# Altium footprint library SR PCB Library V01.PcbLib: 402 footprints (part 12 of 26)
Each footprint in its own frame and in the unit in brackets; x right, y up, seen from the top. Pads: shape width x height; smd on the part's side, far side on the other; paste and mask are expansions set on the pad; w line width, h text height; cw(c..) or ccw(c..) is an arc to the next point about the centre after c.
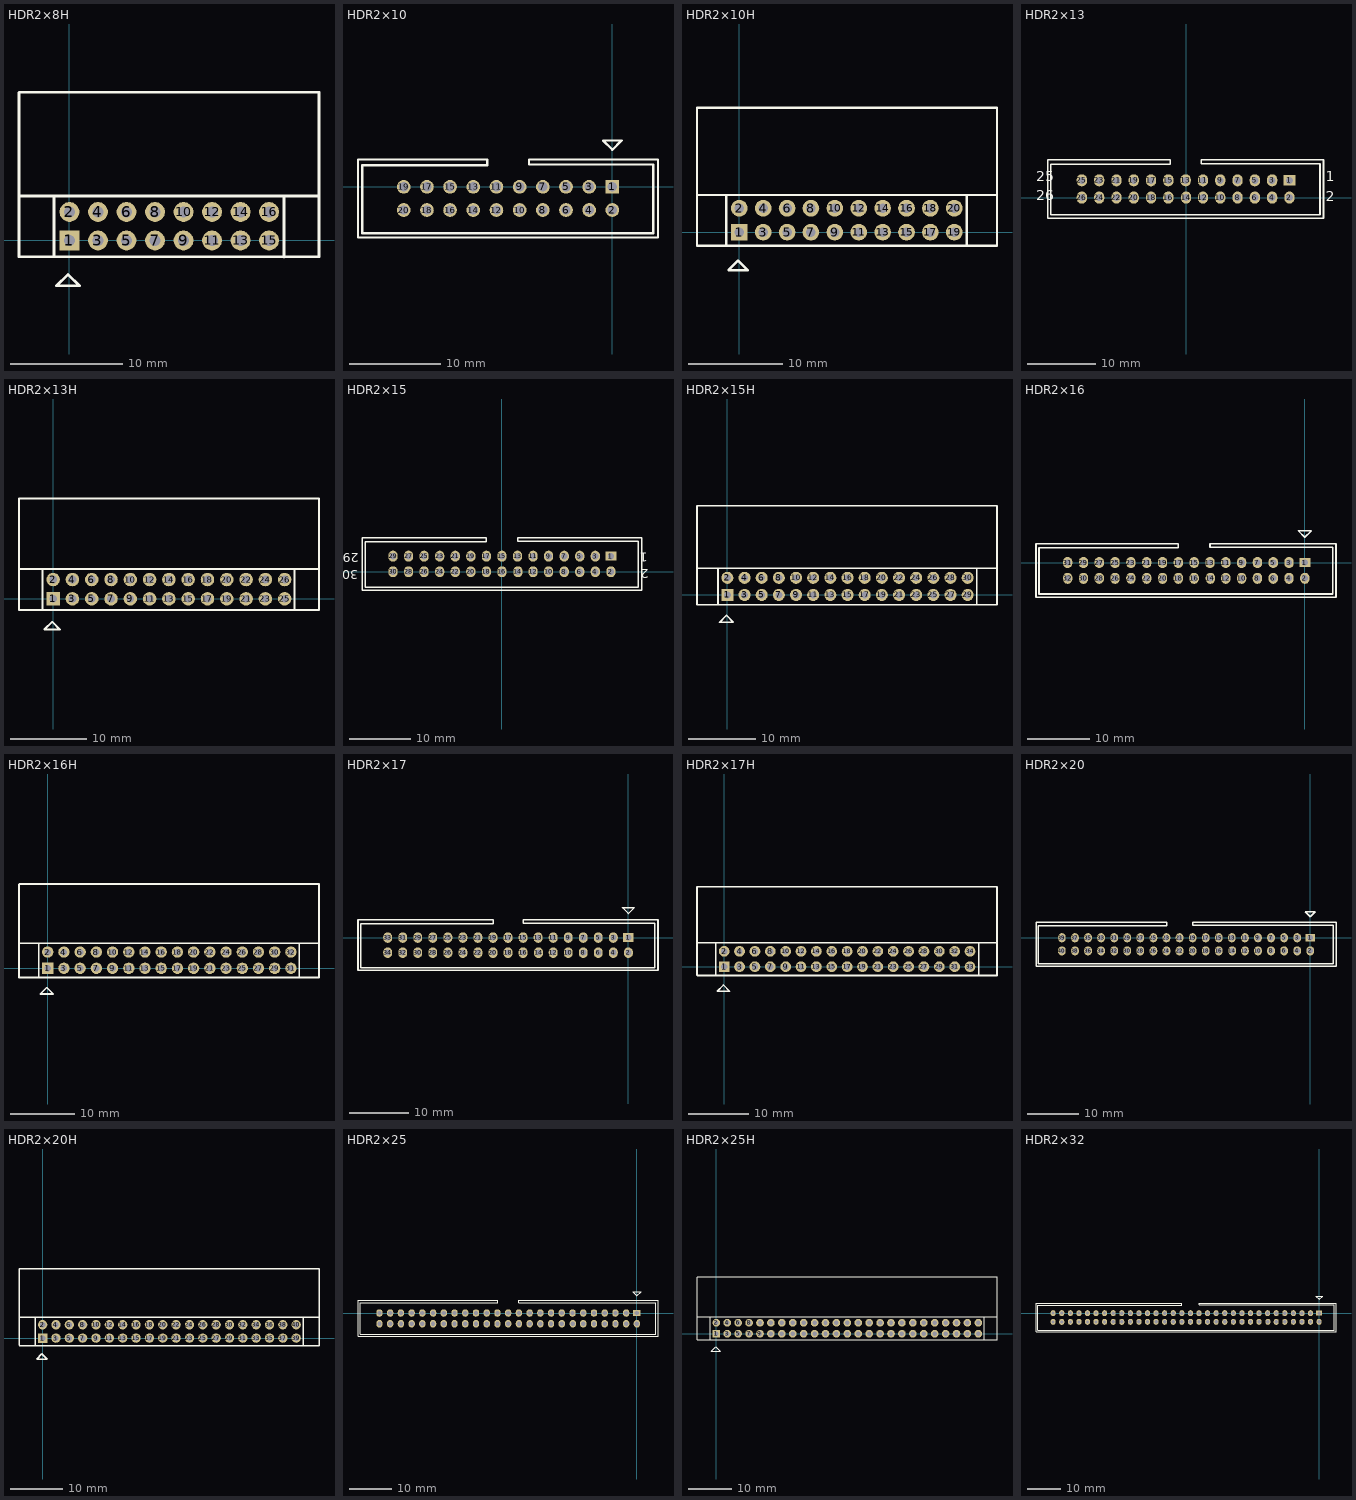
[diagram p11: the footprints below, top view; thin cyan lines are the x and y axes]

## HDR2×8H [mil]
pads (16):
  rect 70x70 hole 40: 1(0,0)
  round 70 hole 40: 2(0,100) 3(100,0) 4(100,100) 5(200,0) 6(200,100) 7(300,0) 8(300,100) 9(400,0) 10(400,100) 11(500,0) 12(500,100) 13(600,0) 14(600,100) 15(700,0) 16(700,100)
Top Overlay:
  lines w10: -177,-55 -177,519 ; -176.82,-57 875,-57 875,520 -176,520 ; -176.82,155.5 875,155.5 ; -54.15,-54 -54.15,155 ; 751.97,-57.46 751.97,153.54 ; -45.3,-159 14.7,-159 34.7,-159 -5.3,-119 -45.3,-159

## HDR2×10 [mm]
pads (20):
  rect 1.5x1.5 hole 1.016: 1(0,0)
  round 1.5 hole 1.016: 2(0,-2.54) 3(-2.54,0) 4(-2.54,-2.54) 5(-5.08,0) 6(-5.08,-2.54) 7(-7.62,0) 8(-7.62,-2.54) 9(-10.16,0) 10(-10.16,-2.54) 11(-12.7,0) 12(-12.7,-2.54) 13(-15.24,0) 14(-15.24,-2.54) 15(-17.78,0) 16(-17.78,-2.54) 17(-20.32,0) 18(-20.32,-2.54) 19(-22.86,0) 20(-22.86,-2.54)
Top Overlay:
  lines w0.254: 5,-5.55 -27.87,-5.55 -27.87,3 -13.706,3 -13.706,2.377 -27.417,2.377 -27.417,-5.067 4.488,-5.067 4.488,2.443 -9.126,2.443 -9.126,3 5,3 ; 5,-5.55 5,3 ; 5,-5.55 5,3 ; -1.016,5.08 0,4.064 1.016,5.08 -0.508,5.08 -1.016,5.08

## HDR2×10H [mil]
pads (20):
  rect 70x70 hole 40: 1(0,0)
  round 70 hole 40: 2(0,100) 3(100,0) 4(100,100) 5(200,0) 6(200,100) 7(300,0) 8(300,100) 9(400,0) 10(400,100) 11(500,0) 12(500,100) 13(600,0) 14(600,100) 15(700,0) 16(700,100) 17(800,0) 18(800,100) 19(900,0) 20(900,100)
Top Overlay:
  lines w10: -177,-55 -177,519 ; -176.82,-57 1078.74,-57 1078.74,520 -176,520 ; -176.82,155.5 1074.8,155.5 ; -54.15,-54 -54.15,155 ; 952.76,-51.18 952.76,153.54 ; -45.3,-159 14.7,-159 34.7,-159 -5.3,-119 -45.3,-159

## HDR2×13 [mil]
pads (26):
  rect 70x59.06 hole 40: 1(597.24,100)
  oval 59.06x70 hole 40: 2(597.24,0) 3(497.24,100) 4(497.24,0) 5(397.24,100) 6(397.24,0) 7(297.24,100) 8(297.24,0) 9(197.24,100) 10(197.24,0) 11(97.24,100) 12(97.24,0) 13(-2.76,100) 14(0,0) 15(-102.76,100) 16(-102.76,0) 17(-202.76,100) 18(-202.76,0) 19(-302.76,100) 20(-302.76,0) 21(-402.76,100) 22(-402.76,0) 23(-502.76,100) 24(-502.76,0) 25(-602.76,100) 26(-602.76,0)
Top Overlay:
  lines w10: 794.09,-118.5 -800,-118.5 -800,218.11 -92.36,218.11 -92.36,193.6 -782.16,193.6 -782.16,-99.5 773.94,-99.5 773.94,196.2 87.94,196.2 87.94,218.11 794.09,218.11 ; 794.09,-118.5 794.09,218.11 ; 794.09,-118.5 794.09,218.11
  text "1" at 807.24,95 h59.06
  text "2" at 807.24,-20 h59.06
  text "25" at -867.76,95 h59.06
  text "26" at -867.76,-15 h59.06

## HDR2×13H [mil]
pads (26):
  rect 70x70 hole 40: 1(0,0)
  round 70 hole 40: 2(0,100) 3(100,0) 4(100,100) 5(200,0) 6(200,100) 7(300,0) 8(300,100) 9(400,0) 10(400,100) 11(500,0) 12(500,100) 13(600,0) 14(600,100) 15(700,0) 16(700,100) 17(800,0) 18(800,100) 19(900,0) 20(900,100) 21(1000,0) 22(1000,100) 23(1100,0) 24(1100,100) 25(1200,0) 26(1200,100)
Top Overlay:
  lines w10: -177,-55 -177,519 ; -176.82,-57 1377.95,-57 1377.95,520 -176,520 ; -176.82,155.5 1377.95,155.5 ; -54.15,-54 -54.15,155 ; 1251.97,-55.48 1251.97,153.54 ; -45.3,-159 -5.3,-119 34.7,-159 14.7,-159 -45.3,-159

## HDR2×15 [mil]
pads (30):
  rect 70x59.06 hole 40: 1(700,100)
  oval 59.06x70 hole 40: 2(700,0) 3(600,100) 4(600,0) 5(500,100) 6(500,0) 7(400,100) 8(400,0) 9(300,100) 10(300,0) 11(200,100) 12(200,0) 13(100,100) 14(102.76,0) 15(0,100) 16(0,0) 17(-100,100) 18(-100,0) 19(-200,100) 20(-200,0) 21(-300,100) 22(-300,0) 23(-400,100) 24(-400,0) 25(-500,100) 26(-500,0) 27(-600,100) 28(-600,0) 29(-700,100) 30(-700,0)
Top Overlay:
  lines w10: -897.24,-118.5 -897.24,218.11 ; -897,-119 -879,-119 896.85,-119 896.85,218.11 ; -897,218.11 -389.6,218.11 ; -879.4,-99 -879.4,193.6 ; -879,-99 876.7,-99 876.7,196.2 102,196.2 102,218.11 896.85,218.11 ; -879,193.6 -389.6,193.6 ; -697.24,218.11 -102,218.11 -102,193.6 -679.4,193.6 ; 896.85,-118.5 896.85,218.11
  text "2" at 943.62,16.69 h59.06
  text "1" at 937.72,121.42 h59.06
  text "29" at -920.16,117.87 h59.06
  text "30" at -924.88,8.43 h59.06

## HDR2×15H [mil]
pads (30):
  rect 70x70 hole 40: 1(0,0)
  round 70 hole 40: 2(0,100) 3(100,0) 4(100,100) 5(200,0) 6(200,100) 7(300,0) 8(300,100) 9(400,0) 10(400,100) 11(500,0) 12(500,100) 13(600,0) 14(600,100) 15(700,0) 16(700,100) 17(800,0) 18(800,100) 19(900,0) 20(900,100) 21(1000,0) 22(1000,100) 23(1100,0) 24(1100,100) 25(1200,0) 26(1200,100) 27(1300,0) 28(1300,100) 29(1400,0) 30(1400,100)
Top Overlay:
  lines w10: -177,-55 -177,519 ; -176.82,-57 1570.87,-57 1570.87,520 -176,520 ; -176.82,155.5 1570.87,155.5 ; -54.15,-54 -54.15,155 ; 1452.76,-55.48 1452.76,153.54 ; -45.3,-159 14.7,-159 34.7,-159 -5.3,-119 -45.3,-159

## HDR2×16 [mil]
height 452.76
pads (32):
  rect 70x59.06 hole 40: 1(0,0)
  oval 59.06x70 hole 40: 2(0,-100) 3(-100,0) 4(-100,-100) 5(-200,0) 6(-200,-100) 7(-300,0) 8(-300,-100) 9(-400,0) 10(-400,-100) 11(-500,0) 12(-500,-100) 13(-600,0) 14(-597.24,-100) 15(-700,0) 16(-700,-100) 17(-800,0) 18(-800,-100) 19(-900,0) 20(-900,-100) 21(-1000,0) 22(-1000,-100) 23(-1100,0) 24(-1100,-100) 25(-1200,0) 26(-1200,-100) 27(-1300,0) 28(-1300,-100) 29(-1400,0) 30(-1400,-100) 31(-1500,0) 32(-1500,-100)
Top Overlay:
  lines w10: -1397.24,118.11 -800,118.11 -800,93.6 -1379.4,93.6 ; -1089.6,93.6 -1681.1,93.6 -1681.1,-199 176.7,-199 176.7,96.2 -600,96.2 -600,118.11 196.85,118.11 ; -1089.6,118.11 -1700,118.11 -1700,-218.5 196.85,-218.5 ; 196.85,-218.5 196.85,118.11 ; 196.85,-218.5 196.85,118.11 ; -40,200 0,160 40,200 -20,200 -40,200

## HDR2×16H [mil]
height 452.76
pads (32):
  rect 70x70 hole 40: 1(0,0)
  round 70 hole 40: 2(0,100) 3(100,0) 4(100,100) 5(200,0) 6(200,100) 7(300,0) 8(300,100) 9(400,0) 10(400,100) 11(500,0) 12(500,100) 13(600,0) 14(600,100) 15(700,0) 16(700,100) 17(800,0) 18(800,100) 19(900,0) 20(900,100) 21(1000,0) 22(1000,100) 23(1100,0) 24(1100,100) 25(1200,0) 26(1200,100) 27(1300,0) 28(1300,100) 29(1400,0) 30(1400,100) 31(1500,0) 32(1500,100)
Top Overlay:
  lines w10: -177,-55 -177,519 ; -176.82,-57 1673.23,-57 1673.23,520 -176,520 ; -176.82,155.5 1673.23,153.54 ; -54.15,-54 -54.15,155 ; 1551.18,-55.48 1551.18,153.54 ; -45.3,-159 14.7,-159 34.7,-159 -5.3,-119 -45.3,-159

## HDR2×17 [mil]
height 452.76
pads (34):
  rect 70x59.06 hole 40: 1(0,0)
  oval 59.06x70 hole 40: 2(0,-100) 3(-100,0) 4(-100,-100) 5(-200,0) 6(-200,-100) 7(-300,0) 8(-300,-100) 9(-400,0) 10(-400,-100) 11(-500,0) 12(-500,-100) 13(-600,0) 14(-597.24,-100) 15(-700,0) 16(-700,-100) 17(-800,0) 18(-800,-100) 19(-900,0) 20(-900,-100) 21(-1000,0) 22(-1000,-100) 23(-1100,0) 24(-1100,-100) 25(-1200,0) 26(-1200,-100) 27(-1300,0) 28(-1300,-100) 29(-1400,0) 30(-1400,-100) 31(-1500,0) 32(-1500,-100) 33(-1600,0) 34(-1600,-100)
Top Overlay:
  lines w10: -1797.24,-218.5 -1797.24,118.11 -1089.6,118.11 ; -1797,-218.5 196.85,-218.5 ; -1397.24,118.11 -898,118.11 -898,93.6 -1379.4,93.6 ; -1089.6,93.6 -1779.4,93.6 -1779.4,-199 176.7,-199 176.7,96.2 -698,96.2 -698,118.11 196.85,118.11 ; 196.85,-218.5 196.85,118.11 ; 196.85,-218.5 196.85,118.11 ; -40,200 -20,200 40,200 0,160 -40,200

## HDR2×17H [mil]
height 452.76
pads (34):
  rect 70x70 hole 40: 1(0,0)
  round 70 hole 40: 2(0,100) 3(100,0) 4(100,100) 5(200,0) 6(200,100) 7(300,0) 8(300,100) 9(400,0) 10(400,100) 11(500,0) 12(500,100) 13(600,0) 14(600,100) 15(700,0) 16(700,100) 17(800,0) 18(800,100) 19(900,0) 20(900,100) 21(1000,0) 22(1000,100) 23(1100,0) 24(1100,100) 25(1200,0) 26(1200,100) 27(1300,0) 28(1300,100) 29(1400,0) 30(1400,100) 31(1500,0) 32(1500,100) 33(1600,0) 34(1600,100)
Top Overlay:
  lines w10: -177,-55 -177,519 ; -176.82,-57 1775.59,-57 1775.59,520 -176,520 ; -176.82,155.5 1775.59,155.5 ; -54.15,-54 -54.15,155 ; 1657.48,-55.12 1657.48,153.54 ; -45.3,-159 -5.3,-119 34.7,-159 14.7,-159 -45.3,-159

## HDR2×20 [mil]
height 452.76
pads (40):
  rect 70x59.06 hole 40: 1(0,0)
  oval 59.06x70 hole 40: 2(0,-100) 3(-100,0) 4(-100,-100) 5(-200,0) 6(-200,-100) 7(-300,0) 8(-300,-100) 9(-400,0) 10(-400,-100) 11(-500,0) 12(-500,-100) 13(-600,0) 14(-597.24,-100) 15(-700,0) 16(-700,-100) 17(-800,0) 18(-800,-100) 19(-900,0) 20(-900,-100) 21(-1000,0) 22(-1000,-100) 23(-1100,0) 24(-1100,-100) 25(-1200,0) 26(-1200,-100) 27(-1300,0) 28(-1300,-100) 29(-1400,0) 30(-1400,-100) 31(-1500,0) 32(-1500,-100) 33(-1600,0) 34(-1600,-100) 35(-1700,0) 36(-1700,-100) 37(-1800,0) 38(-1800,-100) 39(-1900,0) 40(-1900,-100)
Top Overlay:
  lines w10: -2098,118.11 -1099,118.11 -1099,93.6 -2079,94 ; -2097.24,-218.5 -2097.24,118.11 ; -2097,-218.5 196.85,-218.5 ; -2080,-199 176.7,-199 176.7,96.2 -898,96.2 -898,118.11 196.85,118.11 ; -2079.4,-199 -2079.4,93.6 ; 196.85,-218.5 196.85,118.11 ; 196.85,-218.5 196.85,118.11 ; -40,200 0,160 40,200 -20,200 -40,200

## HDR2×20H [mil]
height 452.76
pads (40):
  rect 70x70 hole 40: 1(0,0)
  round 70 hole 40: 2(0,100) 3(100,0) 4(100,100) 5(200,0) 6(200,100) 7(300,0) 8(300,100) 9(400,0) 10(400,100) 11(500,0) 12(500,100) 13(600,0) 14(600,100) 15(700,0) 16(700,100) 17(800,0) 18(800,100) 19(900,0) 20(900,100) 21(1000,0) 22(1000,100) 23(1100,0) 24(1100,100) 25(1200,0) 26(1200,100) 27(1300,0) 28(1300,100) 29(1400,0) 30(1400,100) 31(1500,0) 32(1500,100) 33(1600,0) 34(1600,100) 35(1700,0) 36(1700,100) 37(1800,0) 38(1800,100) 39(1900,0) 40(1900,100)
Top Overlay:
  lines w10: -177,-55 -177,519 ; -176.82,-57 2070.87,-57 2070.87,520 -176,520 ; -176.82,155.5 2070.87,155.5 ; -54.15,-54 -54.15,155 ; 1952.76,-55.12 1952.76,153.54 ; -45.3,-159 -5.3,-119 34.7,-159 14.7,-159 -45.3,-159

## HDR2×25 [mil]
height 452.76
pads (50):
  rect 70x59.06 hole 40: 1(0,0)
  oval 59.06x70 hole 40: 2(0,-100) 3(-100,0) 4(-100,-100) 5(-200,0) 6(-200,-100) 7(-300,0) 8(-300,-100) 9(-400,0) 10(-400,-100) 11(-500,0) 12(-500,-100) 13(-600,0) 14(-597.24,-100) 15(-700,0) 16(-700,-100) 17(-800,0) 18(-800,-100) 19(-900,0) 20(-900,-100) 21(-1000,0) 22(-1000,-100) 23(-1100,0) 24(-1100,-100) 25(-1200,0) 26(-1200,-100) 27(-1300,0) 28(-1300,-100) 29(-1400,0) 30(-1400,-100) 31(-1500,0) 32(-1500,-100) 33(-1600,0) 34(-1600,-100) 35(-1700,0) 36(-1700,-100) 37(-1800,0) 38(-1800,-100) 39(-1900,0) 40(-1900,-100) 41(-2000,0) 42(-2000,-100) 43(-2100,0) 44(-2100,-100) 45(-2200,0) 46(-2200,-100) 47(-2300,0) 48(-2300,-100) 49(-2400,0) 50(-2400,-100)
Top Overlay:
  lines w10: 196.85,-218.5 196.85,118.11 ; 196.85,-218.5 196.85,118.11 ; 196.85,-218.5 -2600,-218.5 -2600,118.11 -1299.21,118.11 -1299.21,93.68 -2578.74,94.2 -2578.74,-199 176.7,-199 176.7,96.2 -1102.36,96.2 -1102.36,118.11 196.85,118.11 ; -40,200 0,160 40,200 -20,200 -40,200

## HDR2×25H [mil]
height 452.76
pads (50):
  rect 70x70 hole 40: 1(0,0)
  round 70 hole 40: 2(0,100) 3(100,0) 4(100,100) 5(200,0) 6(200,100) 7(300,0) 8(300,100) 9(400,0) 10(400,100) 11(500,0) 12(500,100) 13(600,0) 14(600,100) 15(700,0) 16(700,100) 17(800,0) 18(800,100) 19(900,0) 20(900,100) 21(1000,0) 22(1000,100) 23(1100,0) 24(1100,100) 25(1200,0) 26(1200,100) 27(1300,0) 28(1300,100) 29(1400,0) 30(1400,100) 31(1500,0) 32(1500,100) 33(1600,0) 34(1600,100) 35(1700,0) 36(1700,100) 37(1800,0) 38(1800,100) 39(1900,0) 40(1900,100) 41(2000,0) 42(2000,100) 43(2100,0) 44(2100,100) 45(2200,0) 46(2200,100) 47(2300,0) 48(2300,100) 49(2400,0) 50(2400,100)
Top Overlay:
  lines w10: -177,-55 -177,519 ; -176.82,-57 2570.87,-57 2570.87,520 -176,520 ; -176.82,155.5 2570.87,157.53 ; -54.15,-54 -54.15,155 ; 2452.76,-55.12 2452.76,153.54 ; -45.3,-159 -5.3,-119 34.7,-159 14.7,-159 -45.3,-159

## HDR2×32 [mil]
height 452.76
pads (64):
  rect 70x59.06 hole 40: 1(0,0)
  oval 59.06x70 hole 40: 2(0,-100) 3(-100,0) 4(-100,-100) 5(-200,0) 6(-200,-100) 7(-300,0) 8(-300,-100) 9(-400,0) 10(-400,-100) 11(-500,0) 12(-500,-100) 13(-600,0) 14(-597.24,-100) 15(-700,0) 16(-700,-100) 17(-800,0) 18(-800,-100) 19(-900,0) 20(-900,-100) 21(-1000,0) 22(-1000,-100) 23(-1100,0) 24(-1100,-100) 25(-1200,0) 26(-1200,-100) 27(-1300,0) 28(-1300,-100) 29(-1400,0) 30(-1400,-100) 31(-1500,0) 32(-1500,-100) 33(-1600,0) 34(-1600,-100) 35(-1700,0) 36(-1700,-100) 37(-1800,0) 38(-1800,-100) 39(-1900,0) 40(-1900,-100) 41(-2000,0) 42(-2000,-100) 43(-2100,0) 44(-2100,-100) 45(-2200,0) 46(-2200,-100) 47(-2300,0) 48(-2300,-100) 49(-2400,0) 50(-2400,-100)
  oval 59.06x70 hole 35.43: 51(-2500,0) 52(-2500,-100) 53(-2600,0) 54(-2600,-100) 55(-2700,0) 56(-2700,-100) 57(-2800,0) 58(-2800,-100) 59(-2900,0) 60(-2900,-100) 61(-3000,0) 62(-3000,-100) 63(-3100,0) 64(-3100,-100)
Top Overlay:
  lines w10: 196.85,-218.5 -3300,-218.5 -3300,118.11 -1600,118.11 -1600,93.81 -3279.53,94.49 -3279.53,-199 176.7,-199 176.7,96.2 -1400,96.2 -1400,118.11 196.85,118.11 ; 196.85,-218.5 196.85,118.11 ; 196.85,-218.5 196.85,118.11 ; -40,200 -20,200 40,200 0,160 -40,200